# Altium schematic symbol library SnapEDAsch.SchLib: 1 symbol
Pins are listed as number, name and electrical type; pins without a type are passive.

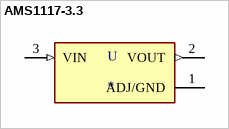
[diagram p0: symbol AMS1117-3.3]

## AMS1117-3.3
designator U
Sot223/Pkg 1-Amp 3.3-Volt Low Drop Out Voltage Regulatator; MP: AMS1117-3.3; MF: Advanced Monolithic Systems; Price: None; Package: None; Value: *; Availability: Unavailable; SnapEDA_Link: https://www.snapeda.com/parts/AMS1117-3.3/Advanced%20Monolithic%20Systems/view-part/53450/?ref=snap
footprint SOT229P700X180-4N
pins: 1 ADJ/GND (power), 2 VOUT (out), 3 VIN (in)